# Altium footprint library Composants_Projet_PCB_Full.PcbLib: 52 footprints (part 2 of 4)
Each footprint in its own frame and in the unit in brackets; x right, y up, seen from the top. Pads: shape width x height; smd on the part's side, far side on the other; paste and mask are expansions set on the pad; w line width, h text height; cw(c..) or ccw(c..) is an arc to the next point about the centre after c.
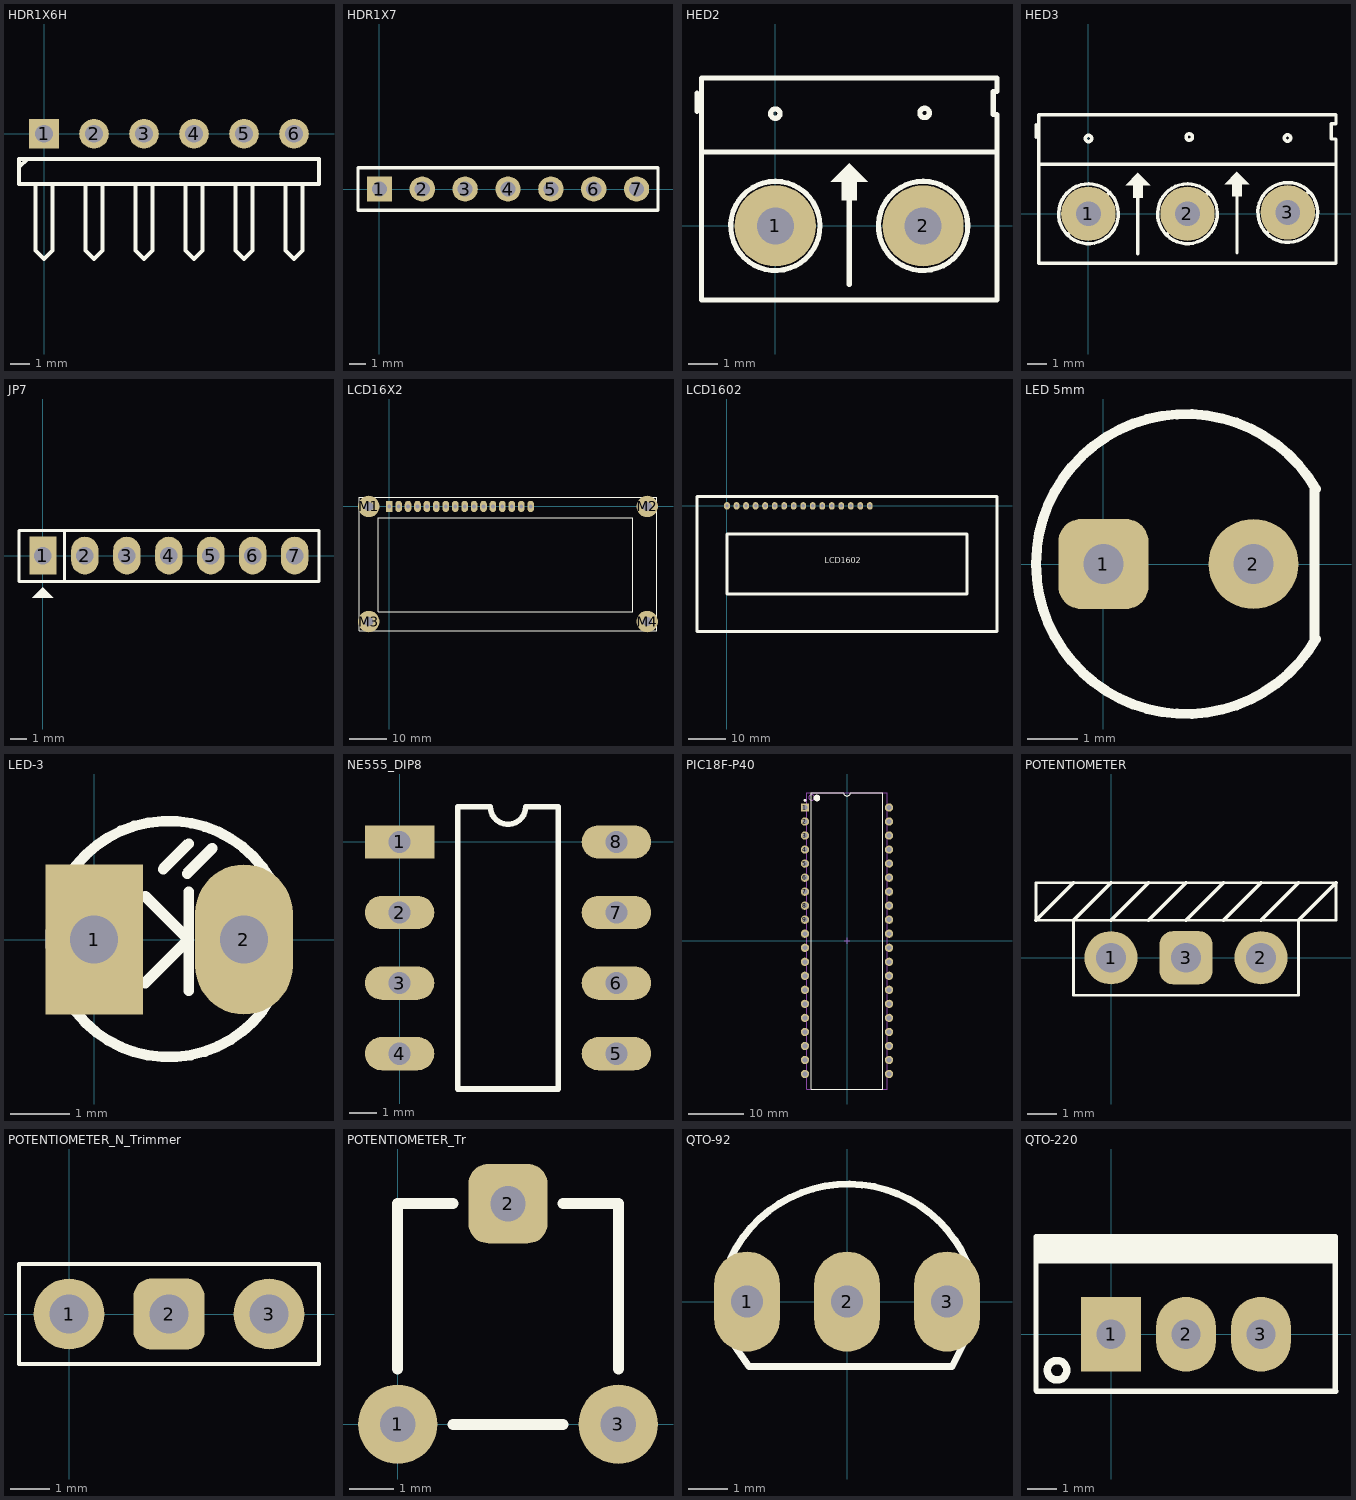
[diagram p1: the footprints below, top view; thin cyan lines are the x and y axes]

## HDR1X6H [mm]
pads (6):
  rect 1.5x1.5 hole 0.9: 1(0,0)
  round 1.5 hole 0.9: 2(2.54,0) 3(5.08,0) 4(7.62,0) 5(10.16,0) 6(12.7,0)
Top Overlay:
  lines w0.2: -1.27,-1.693 -0.847,-1.27 ; -0.423,-2.54 -0.423,-5.927 0,-6.35 0.423,-5.927 0.423,-2.54 ; 2.117,-2.54 2.117,-5.927 2.54,-6.35 2.963,-5.927 2.963,-2.54 ; 4.657,-2.54 4.657,-5.927 5.08,-6.35 5.503,-5.927 5.503,-2.54 ; 7.197,-2.54 7.197,-5.927 7.62,-6.35 8.043,-5.927 8.043,-2.54 ; 9.737,-2.54 9.737,-5.927 10.16,-6.35 10.583,-5.927 10.583,-2.54 ; 12.277,-2.54 12.277,-5.927 12.7,-6.35 13.123,-5.927 13.123,-2.54 ; -1.27,-2.54 -1.27,-1.27 13.97,-1.27 13.97,-2.54 -1.27,-2.54

## HDR1X7 [mm]
pads (7):
  rect 1.5x1.5 hole 0.9: 1(0,0)
  round 1.5 hole 0.9: 2(2.54,0) 3(5.08,0) 4(7.62,0) 5(10.16,0) 6(12.7,0) 7(15.24,0)
Top Overlay:
  lines w0.2: -1.27,-1.27 16.51,-1.27 16.51,1.27 -1.27,1.27 -1.27,-1.27

## HED2 [mil]
pads (2):
  round 110 hole 50: 1(0,0) 2(200,0)
Top Overlay:
  circle w7: c0,152 r6.4
  circle w7: c202,153 r6.4
  region: 100,85 75,60 90,60 90,35 110,35 110,60 125,60
  lines w7: -106,155 -106,180 ; -98,100 299,100 ; 38.83,46.23 ccw(c0,0) 40.11,45.12 ; 100,-79 100,72 ; 238.74,46.3 ccw(c200,0) 240.11,45.12 ; -100,-100 300,-100 300,151 295,151 295,182 300,182 300,200 -100,200 -100,50 -100,-100

## HED3 [mil]
pads (3):
  round 110 hole 50: 1(0,0) 2(200,0) 3(402.62,2.62)
Top Overlay:
  circle w7: c203.6,155 r6.4
  circle w7: c0,152 r6.4
  circle w7: c402,153 r6.4
  region: 100,82.5 75,57.5 90,57.5 90,32.5 110,32.5 110,57.5 125,57.5
  region: 300,85 275,60 290,60 290,35 310,35 310,60 325,60
  lines w7: -106,155 -106,180 ; -100,100 500,100 ; -42,-42 43,43 ; 39.44,45.71 ccw(c0,0) 44.97,40.28 ; 100,-81 100,70 ; 158.5,-41.5 243,43 ; 238.89,46.18 ccw(c200,0) 245.38,39.82 ; 300,-79 300,72 ; 360,-39 445,45 ; 441.65,48.68 ccw(c402.62,2.62) 448.22,42.19 ; -100,-100 -100,50 -100,200 500,200 500,182 490,182 490,151 500,151 500,-100 -100,-100
3D body "User Library-Terminal-Screw-3A-3way.STEP": height 393.7, standoff -118.11, extent -118.11,-114.17 496.07,185.04

## JP7 [mil]
pads (7):
  rect 65x90 hole 42: 1(0,0)
  oval 65x90 hole 42: 2(100,0) 3(200,0) 4(300,0) 5(400,0) 6(500,0) 7(600,0)
Top Overlay:
  region: 0,-75 -25,-100 25,-100
  lines w7: 51,-58 51,60 ; -57,-62 658,-62 658,60 -57,60 -57,-62
3D body "JP1-7.stp": height 323.44, standoff -117.51, extent -50,-49.21 646.06,49.21

## LCD16X2 [mm]
pads (20):
  rect 1.778x3.048 hole 1: 1(0,0)
  oval 1.778x3.048 hole 1: 2(2.54,0) 3(5.08,0) 4(7.62,0) 5(10.16,0) 6(12.7,0) 7(15.24,0) 8(17.78,0) 9(20.32,0) 10(22.86,0) 11(25.4,0) 12(27.94,0) 13(30.48,0) 14(33.02,0) 15(35.56,0) 16(38.1,0)
  round 5.8 / inner round 0 / far side round 0 hole 2.5 unplated: M1(-5.5,0) M2(69.5,0) M3(-5.5,-31) M4(69.5,-31)
Top Overlay:
  lines w0.2: -8,-33.5 72,-33.5 72,2.5 -8,2.5 -8,-33.5 ; -2.921,-28.423 65.659,-28.423 65.659,-3.023 -2.921,-3.023 -2.921,-28.423
3D body "LCD module 16 X 2 backlight.STEP": height 18.14, standoff 4.93, extent -8.128,-34.468 72.372,2.032
3D body "jp16.stp": height 11.89, standoff -0.51, extent -1.219,-1.321 39.321,1.179
3D body "socket16.stp": height 7.02, standoff -2.98, extent -1.207,-1.333 39.433,1.207

## LCD1602 [mil]
pads (16):
  oval 60x80 hole 35.43: 1(0,0) 2(100,0) 3(200,0) 4(300,0) 5(400,0) 6(500,0) 7(600,0) 8(700,0) 9(800,0) 10(900,0) 11(1000,0) 12(1100,0) 13(1200,0) 14(1300,0) 15(1400,0) 16(1500,0)
Top Overlay:
  lines w30: -314.96,-1318.9 -314.96,98.43 2834.65,98.43 2834.65,-1318.9 -314.96,-1318.9 ; 0,-925.2 0,-295.28 2519.69,-295.28 2519.69,-925.2 0,-925.2
  text "LCD1602" at 1025.04,-601.57 h60
3D body "SW3dPS-LCD module 16 X 2 backlight.STEP": height 414, standoff -106, extent -315,-1357.01 2854.29,80

## LED 5mm [mm]
pads (2):
  rrect50% 1.8x1.8 hole 0.8: 1(0,0)
  round 1.8 hole 0.8: 2(3,0)
Top Overlay:
  lines w0.2: 4.225,-1.5 4.225,1.5 ; 4.249,-1.5 cw(c1.651,0) 4.249,1.5

## LED-3 [mil]
pads (2):
  rect 65x100 hole 32: 1(0,0)
  oval 65x100 hole 32: 2(100,0)
Top Overlay:
  lines w7: 34,-29 63,0 34,29 ; 46,47 63,64 ; 62,44 79,61 ; 63,-34 63,32 ; 117.92,-39.35 117.92,39.84
  lines w7.01: 117.57,-39.74 cw(c49.8,0.35) 117.72,40.19

## NE555_DIP8 [mm]
pads (8):
  rect 2.5x1.2 hole 0.8: 1(0,0)
  oval 2.5x1.2 hole 0.8: 2(0,-2.54) 3(0,-5.08) 4(0,-7.62) 5(7.8,-7.62) 6(7.8,-5.08) 7(7.8,-2.54) 8(7.8,0)
Top Overlay:
  lines w0.2: 2.085,-8.89 2.085,1.27 3.265,1.27 ccw(c3.9,1.27) 4.535,1.27 5.715,1.27 5.715,-8.89 2.085,-8.89

## PIC18F-P40 [mm]
pads (40):
  rect 1.5x1.5 hole 0.9: 1(-7.62,24.13)
  round 1.5 hole 0.9: 2(-7.62,21.59) 3(-7.62,19.05) 4(-7.62,16.51) 5(-7.62,13.97) 6(-7.62,11.43) 7(-7.62,8.89) 8(-7.62,6.35) 9(-7.62,3.81) 10(-7.62,1.27) 11(-7.62,-1.27) 12(-7.62,-3.81) 13(-7.62,-6.35) 14(-7.62,-8.89) 15(-7.62,-11.43) 16(-7.62,-13.97) 17(-7.62,-16.51) 18(-7.62,-19.05) 19(-7.62,-21.59) 20(-7.62,-24.13) 21(7.62,-24.13) 22(7.62,-21.59) 23(7.62,-19.05) 24(7.62,-16.51) 25(7.62,-13.97) 26(7.62,-11.43) 27(7.62,-8.89) 28(7.62,-6.35) 29(7.62,-3.81) 30(7.62,-1.27) 31(7.62,1.27) 32(7.62,3.81) 33(7.62,6.35) 34(7.62,8.89) 35(7.62,11.43) 36(7.62,13.97) 37(7.62,16.51) 38(7.62,19.05) 39(7.62,21.59) 40(7.62,24.13)
Top Overlay:
  circle w0.25: c-7.62,25.43 r0.125
  circle w0.6: c-5.45,25.85 r0.3
  lines w0.2: -6.45,-26.85 -6.45,26.85 -0.635,26.85 ccw(c0,26.85) 0.635,26.85 6.45,26.85 6.45,-26.85 -6.45,-26.85
Mechanical 13:
  circle w0.1: c-6.4,25.95 r0.5
  lines w0.1: -7.3,-26.85 -7.3,26.85 7.3,26.85 7.3,-26.85 -7.3,-26.85
Mechanical 15:
  lines w0.1: -0.5,0 0.5,0 ; 0,-0.5 0,0.5

## POTENTIOMETER [mm]
pads (3):
  round 1.8 hole 1: 1(0,0) 2(5.08,0)
  rrect50% 1.8x1.8 hole 1: 3(2.54,0)
Top Overlay:
  lines w0.1: -1.27,1.27 -2.54,1.27 -2.54,2.54 7.62,2.54 7.62,1.27 6.35,1.27 ; -1.27,1.27 -1.27,-1.27 6.35,-1.27 6.35,1.27 ; -1.27,1.27 6.35,1.27
  lines w0.125: -2.54,1.27 -1.27,2.54 ; -1.27,1.27 0,2.54 ; 0,1.27 1.27,2.54 ; 1.27,1.27 2.54,2.54 ; 2.54,1.27 3.81,2.54 ; 3.81,1.27 5.08,2.54 ; 5.08,1.27 6.35,2.54 ; 6.35,1.27 7.62,2.54

## POTENTIOMETER_N_Trimmer [mm]
pads (3):
  round 1.8 hole 1: 1(0,0) 3(5.08,0)
  rrect50% 1.8x1.8 hole 1: 2(2.54,0)
Top Overlay:
  lines w0.1: -1.27,-1.27 6.35,-1.27 6.35,1.27 -1.27,1.27 -1.27,-1.27

## POTENTIOMETER_Tr [mm]
pads (3):
  round 1.8 hole 0.8: 1(0,0) 3(5,0)
  rrect50% 1.8x1.8 hole 0.8: 2(2.5,5)
Top Overlay:
  lines w0.25: 0,1.25 0,5 1.25,5 ; 1.25,0 3.75,0 ; 3.75,5 5,5 5,1.25

## QTO-92 [mil]
pads (3):
  oval 66x100 hole 32: 1(-100,0) 2(0,0) 3(100,0)
Top Overlay:
  lines w7: -116.52,43.21 cw(c0.97,-12.43) 119.94,39.97 ; -115.34,-40.24 -98,-65 105,-65 118,-39
3D body "SW3dPS-TO92.STEP": height 245.04, standoff -199.79, extent -108.87,-65.56 108.86,95

## QTO-220 [mil]
pads (3):
  rect 80x100 hole 39: 1(0,0)
  oval 80x100 hole 39: 2(100,0) 3(200,0)
Top Overlay:
  circle w10: c-72.03,-48 r12.97
  rectangle: -99,94 300,130
  lines w7: 298,107 299,93 ; -100,-75 -99,-76 -76,-76 300,-76 299,-75 299,130 -100,130 -100,-75
3D body "SW3dPS-TO220AB.STEP": height 754.72, standoff -400, extent -119,-64 322.46,120.65